# Altium footprint library 0532610371.PcbLib: 1 footprints
Each footprint in its own frame and in the unit in brackets; x right, y up, seen from the top. Pads: shape width x height; smd on the part's side, far side on the other; paste and mask are expansions set on the pad; w line width, h text height; cw(c..) or ccw(c..) is an arc to the next point about the centre after c.
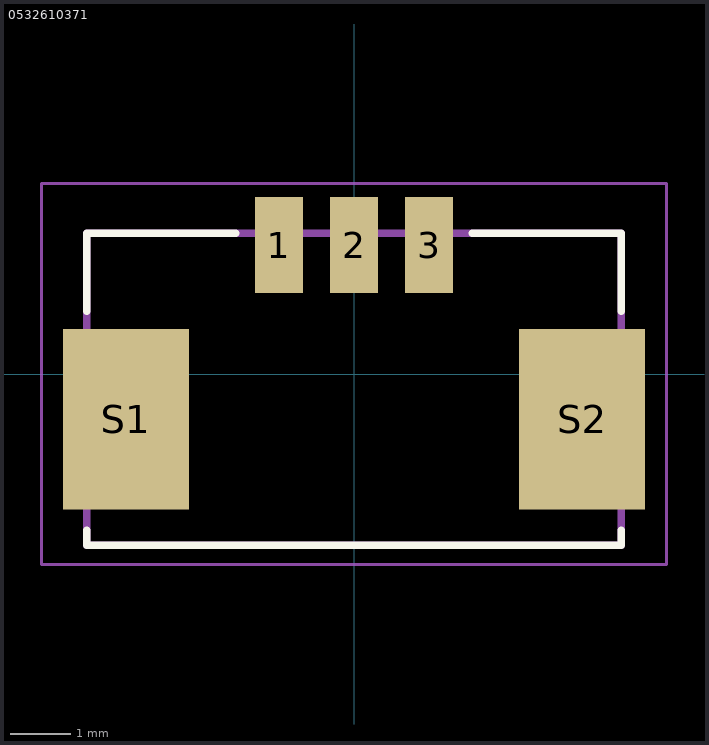
[diagram p0: the footprint, top view; thin cyan lines are the x and y axes]

## 0532610371 [mm]
pads (5):
  rect 0.8x1.6 smd mask+0.076: 1(-1.25,2.146) 2(0,2.146) 3(1.25,2.146)
  rect 2.1x3 smd mask+0.076: S1(-3.8,-0.754) S2(3.8,-0.754)
Top Overlay:
  lines w0.127: -4.45,-2.604 -4.45,-2.854 4.45,-2.854 4.45,-2.604 ; -4.45,1.046 -4.45,2.346 -1.97,2.346 ; 1.97,2.346 4.45,2.346 4.45,1.046
Top 3D Body:
  lines w0.127: -4.45,-2.854 -4.45,2.346 4.45,2.346 4.45,-2.854 -4.45,-2.854
Top Courtyard:
  lines w0.05: -5.207,-3.175 -5.207,3.175 5.207,3.175 5.207,-3.175 -5.207,-3.175
3D body "532610371.STEP": height 3.4, standoff 0, extent -4.45,-2.794 4.45,2.406